# Altium footprint library PJ-202A_Fixed.PcbLib: 1 footprints
Each footprint in its own frame and in the unit in brackets; x right, y up, seen from the top. Pads: shape width x height; smd on the part's side, far side on the other; paste and mask are expansions set on the pad; w line width, h text height; cw(c..) or ccw(c..) is an arc to the next point about the centre after c.
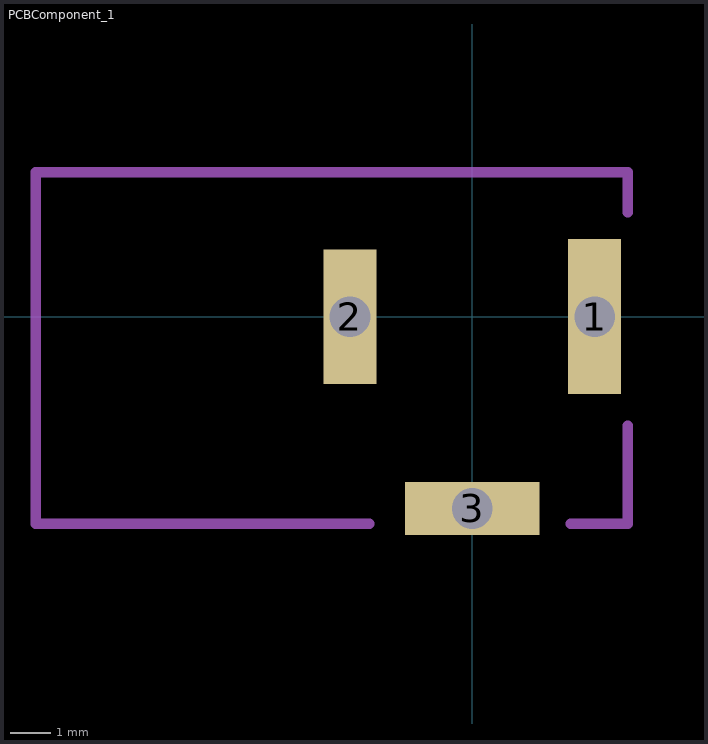
[diagram p0: the footprint, top view; thin cyan lines are the x and y axes]

## PCBComponent_1 [mm]
pads (3):
  rect 1.3x3.8 hole 1 square: 1(3,0)
  rect 1.3x3.3 hole 1 square: 2(-3,0)
  rect 3.3x1.3 hole 1 square: 3(0,-4.7)
Mechanical 1:
  lines w0.254: -2.524,-5.08 -10.7,-5.08 -10.7,3.539 3.539,3.539 3.793,3.539 ; 2.413,-5.08 3.81,-5.08 3.81,-2.667 ; 3.81,2.557 3.81,3.539
3D body: height 10.92, standoff 0.13, extent -10.827,-5.207 3.937,3.666